# EAGLE library part CAY16-472J4LF (library SamacSys_Parts)
Bourns CAY16 Series 4.7k +/-5% Isolated SMT Resistor Array, 4 Resistors, 0.25W total 1206 (3216M) package Convex Source: Datasheet <https://www.bourns.com/pdfs/CATCAY.pdf>
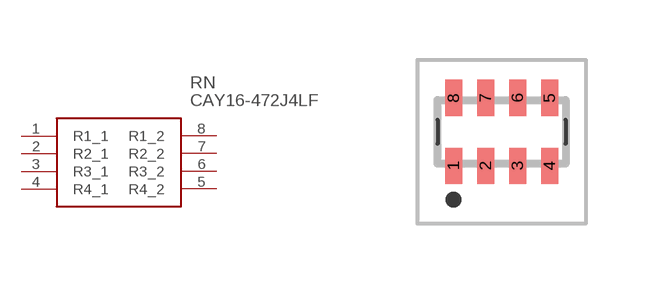
[diagram p233: symbol with the pads of CAY16472J4LF; footprint CAY16472J4LF]

Designator prefix RN

## CAY16-472J4LF (DESCRIPTION: Bourns CAY16 Series 4.7k +/-5% Isolated SMT Resistor Array, 4 Resistors, 0.25W total 1206 (3216M) package Convex; HEIGHT: mm; MANUFACTURER_NAME: Bourns; MANUFACTURER_PART_NUMBER: CAY16-472J4LF; MOUSER_PART_NUMBER: 652-CAY16-472J4LF; MOUSER_PRICE-STOCK: https://www.mouser.co.uk/ProductDetail/Bourns/CAY16-472J4LF?qs=vjljXApjgZXDWSqaYW6%252BOA%3D%3D)  [CAY16472J4LF]
1  R1_1
2  R2_1
3  R3_1
4  R4_1
5  R4_2
6  R3_2
7  R2_2
8  R1_2

## Footprint CAY16472J4LF (pad centres in mm)
CAY16-472J4LF
smd 0.425 x 0.9: 1 -1.2,-0.85; 2 -0.4,-0.85; 3 0.4,-0.85; 4 1.2,-0.85; 5 1.2,0.85; 6 0.4,0.85; 7 -0.4,0.85; 8 -1.2,0.85